# Altium footprint library LF33ABDT-TR.PcbLib: 2 footprints
Each footprint in its own frame and in the unit in brackets; x right, y up, seen from the top. Pads: shape width x height; smd on the part's side, far side on the other; paste and mask are expansions set on the pad; w line width, h text height; cw(c..) or ccw(c..) is an arc to the next point about the centre after c.
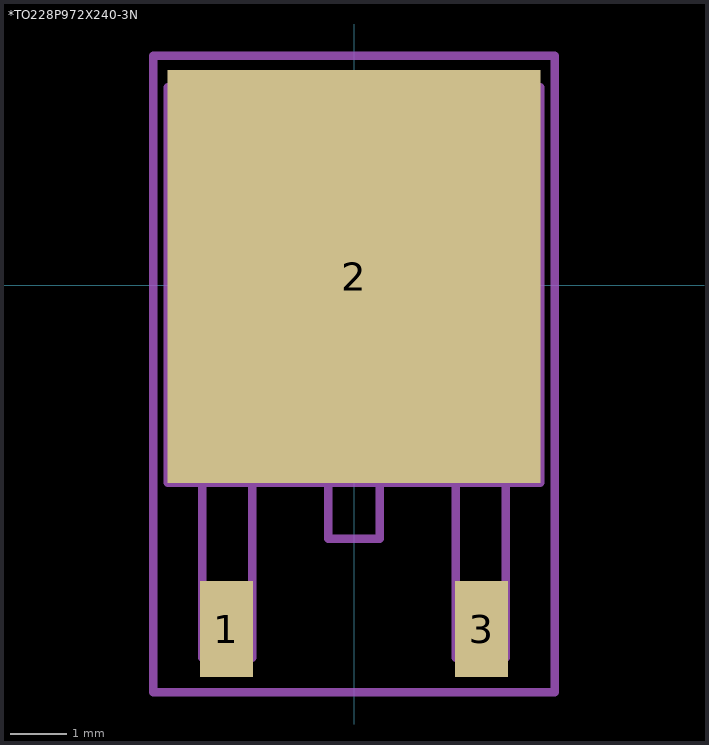
[diagram p0: the footprints below, top view; thin cyan lines are the x and y axes]

## *TO228P972X240-3N [mil]
pads (3):
  rect 37x67 smd: 1(-89,-240) 3(89,-240)
  rect 260x288 smd: 2(0,6)
Mechanical 4:
  lines w6: -130,-138 -130,138 ; -130,-138 130,-138 ; -130,-138 -130,138 ; -130,-138 130,-138 ; -130,138 130,138 ; -130,138 130,138 ; -106,-260 -71,-260 ; -106,-260 -106,-138 ; -106,-260 -71,-260 ; -106,-260 -106,-138 ; -106,-138 -71,-138 ; -106,-138 -71,-138 ; -71,-260 -71,-138 ; -71,-260 -71,-138 ; -18,-177 18,-177 ; -18,-177 -18,-138 -18,-177 ; -18,-177 18,-177 ; 18,-177 18,-138 18,-177 ; 71,-260 106,-260 ; 71,-260 71,-138 ; 71,-260 106,-260 ; 71,-260 71,-138 ; 71,-138 106,-138 ; 71,-138 106,-138 ; 106,-260 106,-138 ; 106,-260 106,-138 ; 130,-138 130,138 ; 130,-138 130,138
Mechanical 16:
  lines w6: -140,-284 -140,160 140,160 140,-284 -140,-284

## PCBComponent_1 [mil]